# Altium footprint library CAP-TH_BD8.0-P3.50-D0.6-FD.PcbLib: 1 footprints
Each footprint in its own frame and in the unit in brackets; x right, y up, seen from the top. Pads: shape width x height; smd on the part's side, far side on the other; paste and mask are expansions set on the pad; w line width, h text height; cw(c..) or ccw(c..) is an arc to the next point about the centre after c.
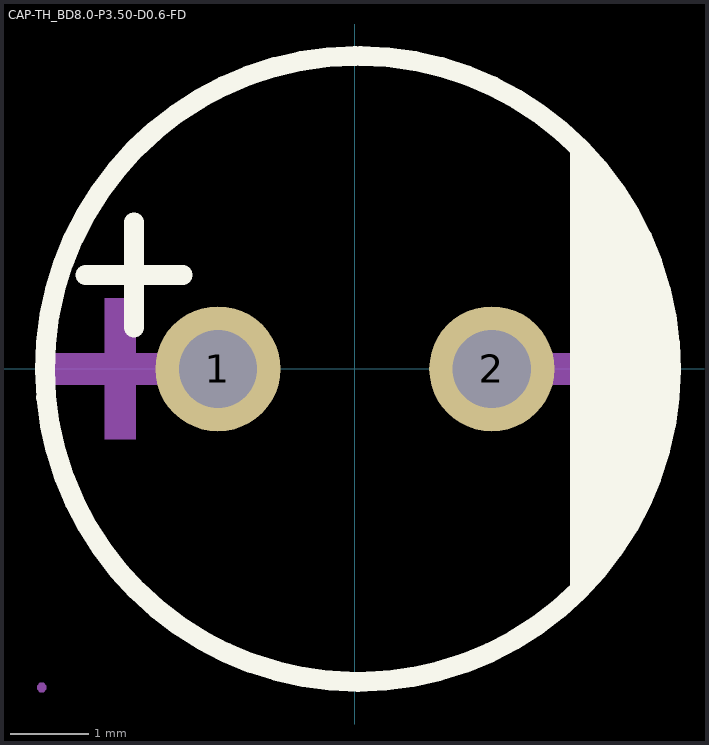
[diagram p0: the footprint, top view; thin cyan lines are the x and y axes]

## CAP-TH_BD8.0-P3.50-D0.6-FD [mm]
pads (2):
  round 1.6 hole 1: 1(-1.75,0) 2(1.75,0)
Top Overlay:
  region: 2.75,-3 2.941,-2.8 3.268,-2.355 3.536,-1.872 3.741,-1.359 3.88,-0.824 3.95,-0.276 3.95,0.276 3.88,0.824 3.741,1.359 3.536,1.872 3.268,2.355 2.941,2.8 2.75,3
  lines w0.254: -3.445,1.2 -2.2,1.2 ; -2.822,0.527 -2.822,1.873 ; 0.003,4 ccw(c0.038,0.001) 0.074,4
Mechanical 6:
  region: -3.2,0.5 -3.2,-0.9 -2.8,-0.9 -2.8,0.7 -2.8,0.9 -3.2,0.9
  region: -2.5,0.2 -3.9,0.2 -3.9,-0.2 -2.3,-0.2 -2.1,-0.2 -2.1,0.2
  region: 3.5,0.2 2.1,0.2 2.1,-0.2 3.7,-0.2 3.9,-0.2 3.9,0.2
Mechanical 15:
  region: -1.45,0 -1.451,0.059 -1.498,0.167 -1.582,0.25 -1.691,0.294 -1.809,0.294 -1.918,0.25 -2.002,0.167 -2.049,0.059 -2.05,0 -2.049,-0.059 -2.002,-0.167 -1.918,-0.25 -1.809,-0.294 -1.691,-0.294 -1.582,-0.25 -1.498,-0.167 -1.451,-0.059 -1.45,0
  region: 2.05,0 2.049,0.059 2.002,0.167 1.918,0.25 1.809,0.294 1.691,0.294 1.582,0.25 1.498,0.167 1.451,0.059 1.45,0 1.451,-0.059 1.498,-0.167 1.582,-0.25 1.691,-0.294 1.809,-0.294 1.918,-0.25 2.002,-0.167 2.049,-0.059 2.05,0
  region: -3.941,-4.072 -3.941,-4.047 -3.976,-4.012 -4.026,-4.012 -4.061,-4.047 -4.061,-4.072 -4.061,-4.096 -4.026,-4.132 -3.976,-4.132 -3.941,-4.096 -3.941,-4.072
  lines w0.051: -0.003,-4.072 cw(c-0.001,-0.072) 0,-4.072 -0.003,-4.072